# Altium schematic symbol library Led_Lite-On_LTST-C193KGKT-5A_Green.SchLib: 1 symbol
Pins are listed as number, name and electrical type; pins without a type are passive.

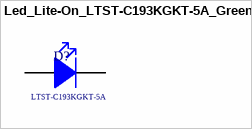
[diagram p0: symbol Led_Lite-On_LTST-C193KGKT-5A_Green]

## Led_Lite-On_LTST-C193KGKT-5A_Green
designator D?  Series: LTST-C193KGKT-5A  (hidden comment: *)
Standard LEDs - SMD Green 470nm 28mcd 20mA; Supplier 1: Mouser; Supplier Part Number 1: 859-LTSTC193KGKT5A
footprint Led_Lite-On_LTST-C193KGKT-5A_Green
pins: 1 K, 2 A